# Altium schematic symbol library SchLib.SchLib: 6 symbols
Pins are listed as number, name and electrical type; pins without a type are passive.

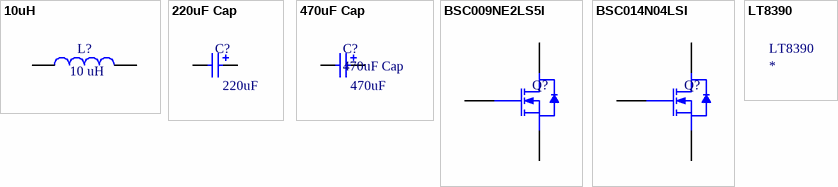
[diagram p0: symbols 10uH to LT8390]

## 10uH
designator L?  value 10 uH
WE-HCF SMD High Current Inductor, size 2818, 10 uH; Part Number: 7443641000; Rated Current: 30 A; ComponentLink1Description: Manufacturer; ComponentLink1URL: http://www.we-online.de; ComponentLink2Description: Datasheet; ComponentLink2URL: http://katalog.we-online.de/pbs/datasheet/7443641000.pdf; Published Date: May 2017; Publisher: Wurth Elektronik; Size: 2818
footprint WE-HCF_2818 (SMD High Current Inductor, size 2818)
pins: 1, 2

## 220uF Cap
designator C?
Capacitance: 220 uF; ESR: 0.23 Ohm
footprint WCAP-ASLI_4x5.5 (Aluminium Electrolytic V-Chip SMT Capacitors, §¶4x5.5mm)
pins: 1 P, 2 N
text: 220uF

## 470uF Cap
designator C?
ESR: 66 mOhm; Capacitance: 470 uF
footprint WCAP-ASLL_4x5.5 (Aluminium Electrolytic V-Chip SMT Capacitors, §¶4x5.5mm)
pins: 1 P, 2 N
text: 470uF

## BSC009NE2LS5I
designator Q?
footprint TDSON-8-FL (Super SO8)
pins: 1 S, 2 S, 3 S, 4 G, 5 D, 6 D, 7 D, 8 D

## BSC014N04LSI
designator Q?
footprint TDSON-8-FL (Super SO8)
pins: 1 S, 2 S, 3 S, 4 G, 5 D, 6 D, 7 D, 8 D

## LT8390
designator LT8390
1 alternate drawing of the same symbol